# Altium footprint library STSPIN32F0A.PcbLib: 3 footprints
Each footprint in its own frame and in the unit in brackets; x right, y up, seen from the top. Pads: shape width x height; smd on the part's side, far side on the other; paste and mask are expansions set on the pad; w line width, h text height; cw(c..) or ccw(c..) is an arc to the next point about the centre after c.
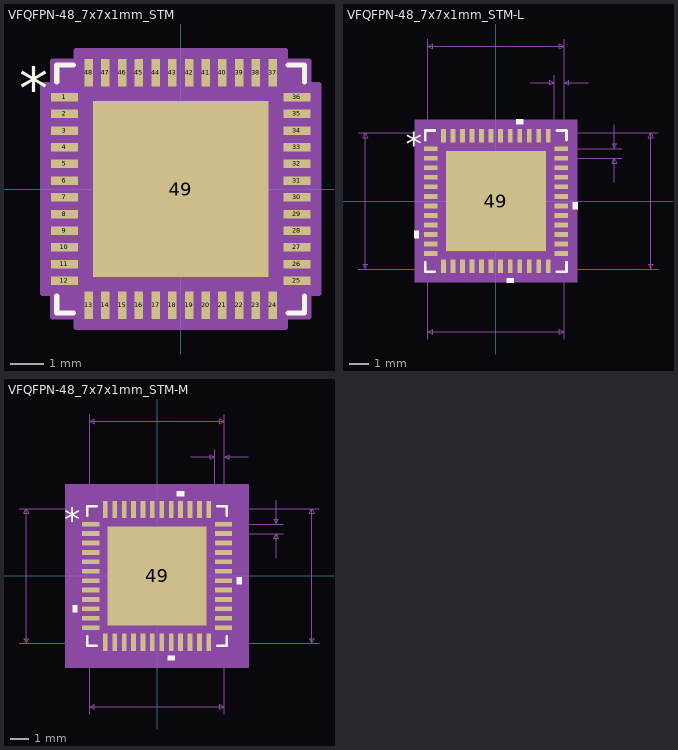
[diagram p0: the footprints below, top view; thin cyan lines are the x and y axes]

## VFQFPN-48_7x7x1mm_STM [mil]
pads (49):
  rect 32x10 smd paste+0 mask+0: 1(-137,108.27) 2(-137,88.58) 3(-137,68.9) 4(-137,49.21) 5(-137,29.53) 6(-137,9.84) 7(-137,-9.84) 8(-137,-29.53) 9(-137,-49.21) 10(-137,-68.9) 11(-137,-88.58) 12(-137,-108.27) 25(137,-108.27) 26(137,-88.58) 27(137,-68.9) 28(137,-49.21) 29(137,-29.53) 30(137,-9.84) 31(137,9.84) 32(137,29.53) 33(137,49.21) 34(137,68.9) 35(137,88.58) 36(137,108.27)
  rect 10x32 smd paste+0 mask+0: 13(-108.27,-137) 14(-88.58,-137) 15(-68.9,-137) 16(-49.21,-137) 17(-29.53,-137) 18(-9.84,-137) 19(9.84,-137) 20(29.53,-137) 21(49.21,-137) 22(68.9,-137) 23(88.58,-137) 24(108.27,-137) 37(108.27,137) 38(88.58,137) 39(68.9,137) 40(49.21,137) 41(29.53,137) 42(9.84,137) 43(-9.84,137) 44(-29.53,137) 45(-49.21,137) 46(-68.9,137) 47(-88.58,137) 48(-108.27,137)
  rect 207x207 smd paste-103 mask+0: 49(0,0)
Top Overlay:
  lines w6: -146,-126.37 -146,-146 -126.37,-146 ; -146,126.37 -146,146 -126.37,146 ; 126.37,-146 146,-146 146,-126.37 ; 126.37,146 146,146 146,126.37
  text "*" at -190.5,93.11 h50
Top Paste:
  region: -55.69,99.56 -99.56,99.56 -99.56,55.69 -55.69,55.69
  region: -55.69,47.81 -99.56,47.81 -99.56,3.94 -55.69,3.94
  region: -55.69,-3.94 -99.56,-3.94 -99.56,-47.81 -55.69,-47.81
  region: -55.69,-55.69 -99.56,-55.69 -99.56,-99.56 -55.69,-99.56
  region: -3.94,99.56 -47.81,99.56 -47.81,55.69 -3.94,55.69
  region: -3.94,47.81 -47.81,47.81 -47.81,3.94 -3.94,3.94
  region: -3.94,-3.94 -47.81,-3.94 -47.81,-47.81 -3.94,-47.81
  region: -3.94,-55.69 -47.81,-55.69 -47.81,-99.56 -3.94,-99.56
  region: 47.81,99.56 3.94,99.56 3.94,55.69 47.81,55.69
  region: 47.81,47.81 3.94,47.81 3.94,3.94 47.81,3.94
  region: 47.81,-3.94 3.94,-3.94 3.94,-47.81 47.81,-47.81
  region: 47.81,-55.69 3.94,-55.69 3.94,-99.56 47.81,-99.56
  region: 99.56,99.56 55.69,99.56 55.69,55.69 99.56,55.69
  region: 99.56,47.81 55.69,47.81 55.69,3.94 99.56,3.94
  region: 99.56,-3.94 55.69,-3.94 55.69,-47.81 99.56,-47.81
  region: 99.56,-55.69 55.69,-55.69 55.69,-99.56 99.56,-99.56
Mechanical 13:
  lines w1: -141,91 -91,141 ; -141,-141 141,-141 141,141 -141,141 -141,-141 ; -141,-114.27 -141,-102.27 -141,-114.27 ; -141,-94.58 -141,-82.58 -141,-94.58 ; -141,-74.9 -141,-62.9 -141,-74.9 ; -141,-55.21 -141,-43.21 -141,-55.21 ; -141,-35.53 -141,-23.53 -141,-35.53 ; -141,-15.84 -141,-3.84 -141,-15.84 ; -141,3.84 -141,15.84 -141,3.84 ; -141,23.53 -141,35.53 -141,23.53 ; -141,43.21 -141,55.21 -141,43.21 ; -141,62.9 -141,74.9 -141,62.9 ; -141,82.58 -141,94.58 -141,82.58 ; -141,102.27 -141,114.27 -141,102.27 ; -114.27,-141 -102.27,-141 -114.27,-141 ; -114.27,141 -102.27,141 -114.27,141 ; -94.58,-141 -82.58,-141 -94.58,-141 ; -94.58,141 -82.58,141 -94.58,141 ; -74.9,-141 -62.9,-141 -74.9,-141 ; -74.9,141 -62.9,141 -74.9,141 ; -55.21,-141 -43.21,-141 -55.21,-141 ; -55.21,141 -43.21,141 -55.21,141 ; -35.53,-141 -23.53,-141 -35.53,-141 ; -35.53,141 -23.53,141 -35.53,141 ; -15.84,-141 -3.84,-141 -15.84,-141 ; -15.84,141 -3.84,141 -15.84,141 ; 3.84,-141 15.84,-141 3.84,-141 ; 3.84,141 15.84,141 3.84,141 ; 23.53,-141 35.53,-141 23.53,-141 ; 23.53,141 35.53,141 23.53,141 ; 43.21,-141 55.21,-141 43.21,-141 ; 43.21,141 55.21,141 43.21,141 ; 62.9,-141 74.9,-141 62.9,-141 ; 62.9,141 74.9,141 62.9,141 ; 82.58,-141 94.58,-141 82.58,-141 ; 82.58,141 94.58,141 82.58,141 ; 102.27,-141 114.27,-141 102.27,-141 ; 102.27,141 114.27,141 102.27,141 ; 141,-114.27 141,-102.27 141,-114.27 ; 141,-94.58 141,-82.58 141,-94.58 ; 141,-74.9 141,-62.9 141,-74.9 ; 141,-55.21 141,-43.21 141,-55.21 ; 141,-35.53 141,-23.53 141,-35.53 ; 141,-15.84 141,-3.84 141,-15.84 ; 141,3.84 141,15.84 141,3.84 ; 141,23.53 141,35.53 141,23.53 ; 141,43.21 141,55.21 141,43.21 ; 141,62.9 141,74.9 141,62.9 ; 141,82.58 141,94.58 141,82.58 ; 141,102.27 141,114.27 141,102.27
  text "*" at -133.5,93.11 h50
Mechanical 15:
  region: -123.27,-151 -151,-151 -151,-123.27 -163,-123.27 -163,123.27 -151,123.27 -151,151 -123.27,151 -123.27,163 123.27,163 123.27,151 151,151 151,123.27 163,123.27 163,-123.27 151,-123.27 151,-151 123.27,-151 123.27,-163 -123.27,-163
  lines w6: -163,-123.27 -151,-123.27 -151,-151 -123.27,-151 -123.27,-163 123.27,-163 123.27,-151 151,-151 151,-123.27 163,-123.27 163,123.27 151,123.27 151,151 123.27,151 123.27,163 -123.27,163 -123.27,151 -151,151 -151,123.27 -163,123.27 -163,-123.27
3D body: height 10, standoff 0, extent 0,0 10,10

## VFQFPN-48_7x7x1mm_STM-L [mil]
pads (49):
  rect 28x10 smd paste+0 mask+0: 1(-135,108.27) 2(-135,88.58) 3(-135,68.9) 4(-135,49.21) 5(-135,29.53) 6(-135,9.84) 7(-135,-9.84) 8(-135,-29.53) 9(-135,-49.21) 10(-135,-68.9) 11(-135,-88.58) 12(-135,-108.27) 25(135,-108.27) 26(135,-88.58) 27(135,-68.9) 28(135,-49.21) 29(135,-29.53) 30(135,-9.84) 31(135,9.84) 32(135,29.53) 33(135,49.21) 34(135,68.9) 35(135,88.58) 36(135,108.27)
  rect 10x28 smd paste+0 mask+0: 13(-108.27,-135) 14(-88.58,-135) 15(-68.9,-135) 16(-49.21,-135) 17(-29.53,-135) 18(-9.84,-135) 19(9.84,-135) 20(29.53,-135) 21(49.21,-135) 22(68.9,-135) 23(88.58,-135) 24(108.27,-135) 37(108.27,135) 38(88.58,135) 39(68.9,135) 40(49.21,135) 41(29.53,135) 42(9.84,135) 43(-9.84,135) 44(-29.53,135) 45(-49.21,135) 46(-68.9,135) 47(-88.58,135) 48(-108.27,135)
  rect 207x207 smd paste-103 mask+0: 49(0,0)
Top Overlay:
  region: 56.71,159 41.71,159 41.71,169 56.71,169
  region: 159,-2.34 169,-2.34 169,-17.34 159,-17.34
  region: 37.03,-159 22.03,-159 22.03,-169 37.03,-169
  region: -159,-61.4 -169,-61.4 -169,-76.4 -159,-76.4
  lines w6: -146,-126.37 -146,-146 -126.37,-146 ; -146,126.37 -146,146 -126.37,146 ; 126.37,-146 146,-146 146,-126.37 ; 126.37,146 146,146 146,126.37
  text "*" at -186.5,93.11 h50
Top Paste:
  region: 99.56,-55.69 55.69,-55.69 55.69,-99.56 99.56,-99.56
  region: 99.56,-3.94 55.69,-3.94 55.69,-47.81 99.56,-47.81
  region: 99.56,47.81 55.69,47.81 55.69,3.94 99.56,3.94
  region: 99.56,99.56 55.69,99.56 55.69,55.69 99.56,55.69
  region: 47.81,-55.69 3.94,-55.69 3.94,-99.56 47.81,-99.56
  region: 47.81,-3.94 3.94,-3.94 3.94,-47.81 47.81,-47.81
  region: 47.81,47.81 3.94,47.81 3.94,3.94 47.81,3.94
  region: 47.81,99.56 3.94,99.56 3.94,55.69 47.81,55.69
  region: -3.94,-55.69 -47.81,-55.69 -47.81,-99.56 -3.94,-99.56
  region: -3.94,-3.94 -47.81,-3.94 -47.81,-47.81 -3.94,-47.81
  region: -3.94,47.81 -47.81,47.81 -47.81,3.94 -3.94,3.94
  region: -3.94,99.56 -47.81,99.56 -47.81,55.69 -3.94,55.69
  region: -55.69,-55.69 -99.56,-55.69 -99.56,-99.56 -55.69,-99.56
  region: -55.69,-3.94 -99.56,-3.94 -99.56,-47.81 -55.69,-47.81
  region: -55.69,47.81 -99.56,47.81 -99.56,3.94 -55.69,3.94
  region: -55.69,99.56 -99.56,99.56 -99.56,55.69 -55.69,55.69
Mechanical 5:
  region: 168,-168 -168,-168 -168,168 168,168
Mechanical 7:
  lines w1: -285,-141 141,-141 ; -285,141 141,141 141,-285 ; -141,-285 -141,141 ; -141,108.27 -141,335 ; 71,245 121,245 ; 108.27,-141 335,-141 ; 108.27,141 335,141 ; 121,108.27 121,260 ; 135,88.58 260,88.58 ; 135,108.27 260,108.27 ; 141,260 141,108.27 141,335 ; 191,245 141,245 ; 245,38.58 245,88.58 ; 245,158.27 245,108.27 ; -270,-141 -265,-131 -275,-131 -270,-141 ; -270,-141 -270,141 ; -270,141 -265,131 -275,131 -270,141 ; -141,-270 -131,-275 -131,-265 -141,-270 ; -141,-270 141,-270 ; -141,320 -131,315 -131,325 -141,320 ; -141,320 141,320 ; 121,245 111,240 111,250 121,245 ; 141,-270 131,-275 131,-265 141,-270 ; 141,245 151,240 151,250 141,245 ; 141,320 131,315 131,325 141,320 ; 245,88.58 250,78.58 240,78.58 245,88.58 ; 245,108.27 250,118.27 240,118.27 245,108.27 ; 320,-141 325,-131 315,-131 320,-141 ; 320,-141 320,141 ; 320,141 325,131 315,131 320,141
  text "0.282in/7.163mm" at -93.75,-315 h25
  text "0.282in/7.163mm" at -477.5,-12.5 h25
  text "0.282in/7.163mm" at 340,-12.5 h25
  text "0.282in/7.163mm" at -93.75,340 h25
  text "0.02in/0.508mm" at 43.5,265 h25
  text "0.02in/0.5mm" at 265,85.93 h25
  text "Alt 2 Padstyle: OX90Y60D30P" at -337.5,-699 h50
  text "Alt 1 Padstyle: OX60Y90D30P" at -337.5,-639 h50
  text "Heat Tab Padstyle: RX207Y207D0T" at -387.5,-519 h50
  text "Default Padstyle: RX10Y28D0T" at -350,-459 h50
Mechanical 13:
  lines w1: -141,91 -91,141 ; -141,-141 -141,141 141,141 141,-141 -141,-141 ; -141,-114.27 -141,-102.27 -141,-114.27 ; -141,-94.58 -141,-82.58 -141,-94.58 ; -141,-74.9 -141,-62.9 -141,-74.9 ; -141,-55.21 -141,-43.21 -141,-55.21 ; -141,-35.53 -141,-23.53 -141,-35.53 ; -141,-15.84 -141,-3.84 -141,-15.84 ; -141,3.84 -141,15.84 -141,3.84 ; -141,23.53 -141,35.53 -141,23.53 ; -141,43.21 -141,55.21 -141,43.21 ; -141,62.9 -141,74.9 -141,62.9 ; -141,82.58 -141,94.58 -141,82.58 ; -141,102.27 -141,114.27 -141,102.27 ; -114.27,-141 -102.27,-141 -114.27,-141 ; -114.27,141 -102.27,141 -114.27,141 ; -94.58,-141 -82.58,-141 -94.58,-141 ; -94.58,141 -82.58,141 -94.58,141 ; -74.9,-141 -62.9,-141 -74.9,-141 ; -74.9,141 -62.9,141 -74.9,141 ; -55.21,-141 -43.21,-141 -55.21,-141 ; -55.21,141 -43.21,141 -55.21,141 ; -35.53,-141 -23.53,-141 -35.53,-141 ; -35.53,141 -23.53,141 -35.53,141 ; -15.84,-141 -3.84,-141 -15.84,-141 ; -15.84,141 -3.84,141 -15.84,141 ; 3.84,-141 15.84,-141 3.84,-141 ; 3.84,141 15.84,141 3.84,141 ; 23.53,-141 35.53,-141 23.53,-141 ; 23.53,141 35.53,141 23.53,141 ; 43.21,-141 55.21,-141 43.21,-141 ; 43.21,141 55.21,141 43.21,141 ; 62.9,-141 74.9,-141 62.9,-141 ; 62.9,141 74.9,141 62.9,141 ; 82.58,-141 94.58,-141 82.58,-141 ; 82.58,141 94.58,141 82.58,141 ; 102.27,-141 114.27,-141 102.27,-141 ; 102.27,141 114.27,141 102.27,141 ; 141,-114.27 141,-102.27 141,-114.27 ; 141,-94.58 141,-82.58 141,-94.58 ; 141,-74.9 141,-62.9 141,-74.9 ; 141,-55.21 141,-43.21 141,-55.21 ; 141,-35.53 141,-23.53 141,-35.53 ; 141,-15.84 141,-3.84 141,-15.84 ; 141,3.84 141,15.84 141,3.84 ; 141,23.53 141,35.53 141,23.53 ; 141,43.21 141,55.21 141,43.21 ; 141,62.9 141,74.9 141,62.9 ; 141,82.58 141,94.58 141,82.58 ; 141,102.27 141,114.27 141,102.27
  text "*" at -133.5,93.11 h50
Mechanical 15:
  region: -117.27,-145 -145,-145 -145,-117.27 -153,-117.27 -153,117.27 -145,117.27 -145,145 -117.27,145 -117.27,153 117.27,153 117.27,145 145,145 145,117.27 153,117.27 153,-117.27 145,-117.27 145,-145 117.27,-145 117.27,-153 -117.27,-153
  lines w6: -153,-117.27 -153,117.27 -145,117.27 -145,145 -117.27,145 -117.27,153 117.27,153 117.27,145 145,145 145,117.27 153,117.27 153,-117.27 145,-117.27 145,-145 117.27,-145 117.27,-153 -117.27,-153 -117.27,-145 -145,-145 -145,-117.27 -153,-117.27
3D body: height 10, standoff 0, extent 0,0 10,10

## VFQFPN-48_7x7x1mm_STM-M [mil]
pads (49):
  rect 36x10 smd paste+0 mask+0: 1(-139,108.27) 2(-139,88.58) 3(-139,68.9) 4(-139,49.21) 5(-139,29.53) 6(-139,9.84) 7(-139,-9.84) 8(-139,-29.53) 9(-139,-49.21) 10(-139,-68.9) 11(-139,-88.58) 12(-139,-108.27) 25(139,-108.27) 26(139,-88.58) 27(139,-68.9) 28(139,-49.21) 29(139,-29.53) 30(139,-9.84) 31(139,9.84) 32(139,29.53) 33(139,49.21) 34(139,68.9) 35(139,88.58) 36(139,108.27)
  rect 10x36 smd paste+0 mask+0: 13(-108.27,-139) 14(-88.58,-139) 15(-68.9,-139) 16(-49.21,-139) 17(-29.53,-139) 18(-9.84,-139) 19(9.84,-139) 20(29.53,-139) 21(49.21,-139) 22(68.9,-139) 23(88.58,-139) 24(108.27,-139) 37(108.27,139) 38(88.58,139) 39(68.9,139) 40(49.21,139) 41(29.53,139) 42(9.84,139) 43(-9.84,139) 44(-29.53,139) 45(-49.21,139) 46(-68.9,139) 47(-88.58,139) 48(-108.27,139)
  rect 207x207 smd paste-103 mask+0: 49(0,0)
Top Overlay:
  region: -167,-61.4 -177,-61.4 -177,-76.4 -167,-76.4
  region: 37.03,-167 22.03,-167 22.03,-177 37.03,-177
  region: 167,-2.34 177,-2.34 177,-17.34 167,-17.34
  region: 56.71,167 41.71,167 41.71,177 56.71,177
  lines w6: -146,-126.37 -146,-146 -126.37,-146 ; -146,126.37 -146,146 -126.37,146 ; 126.37,-146 146,-146 146,-126.37 ; 126.37,146 146,146 146,126.37
  text "*" at -194.5,93.11 h50
Top Paste:
  region: -55.69,99.56 -99.56,99.56 -99.56,55.69 -55.69,55.69
  region: -55.69,47.81 -99.56,47.81 -99.56,3.94 -55.69,3.94
  region: -55.69,-3.94 -99.56,-3.94 -99.56,-47.81 -55.69,-47.81
  region: -55.69,-55.69 -99.56,-55.69 -99.56,-99.56 -55.69,-99.56
  region: -3.94,99.56 -47.81,99.56 -47.81,55.69 -3.94,55.69
  region: -3.94,47.81 -47.81,47.81 -47.81,3.94 -3.94,3.94
  region: -3.94,-3.94 -47.81,-3.94 -47.81,-47.81 -3.94,-47.81
  region: -3.94,-55.69 -47.81,-55.69 -47.81,-99.56 -3.94,-99.56
  region: 47.81,99.56 3.94,99.56 3.94,55.69 47.81,55.69
  region: 47.81,47.81 3.94,47.81 3.94,3.94 47.81,3.94
  region: 47.81,-3.94 3.94,-3.94 3.94,-47.81 47.81,-47.81
  region: 47.81,-55.69 3.94,-55.69 3.94,-99.56 47.81,-99.56
  region: 99.56,99.56 55.69,99.56 55.69,55.69 99.56,55.69
  region: 99.56,47.81 55.69,47.81 55.69,3.94 99.56,3.94
  region: 99.56,-3.94 55.69,-3.94 55.69,-47.81 99.56,-47.81
  region: 99.56,-55.69 55.69,-55.69 55.69,-99.56 99.56,-99.56
Mechanical 5:
  region: 192,-192 -192,-192 -192,192 192,192
Mechanical 7:
  lines w1: -289,-141 141,-141 ; -289,141 141,141 141,-289 ; -141,-289 -141,141 ; -141,108.27 -141,339 ; 71,249 121,249 ; 108.27,-141 339,-141 ; 108.27,141 339,141 ; 121,108.27 121,264 ; 139,88.58 264,88.58 ; 139,108.27 264,108.27 ; 141,264 141,108.27 141,339 ; 191,249 141,249 ; 249,38.58 249,88.58 ; 249,158.27 249,108.27 ; -274,-141 -274,141 ; -274,-141 -279,-131 -269,-131 -274,-141 ; -274,141 -279,131 -269,131 -274,141 ; -141,-274 141,-274 ; -141,-274 -131,-269 -131,-279 -141,-274 ; -141,324 141,324 ; -141,324 -131,329 -131,319 -141,324 ; 121,249 111,254 111,244 121,249 ; 141,-274 131,-269 131,-279 141,-274 ; 141,249 151,254 151,244 141,249 ; 141,324 131,329 131,319 141,324 ; 249,88.58 244,78.58 254,78.58 249,88.58 ; 249,108.27 244,118.27 254,118.27 249,108.27 ; 324,-141 324,141 ; 324,-141 319,-131 329,-131 324,-141 ; 324,141 319,131 329,131 324,141
  text "Default Padstyle: RX10Y36D0T" at -350,-467 h50
  text "Heat Tab Padstyle: RX207Y207D0T" at -387.5,-527 h50
  text "Alt 1 Padstyle: OX60Y90D30P" at -337.5,-647 h50
  text "Alt 2 Padstyle: OX90Y60D30P" at -337.5,-707 h50
  text "0.02in/0.5mm" at 269,85.93 h25
  text "0.02in/0.508mm" at 43.5,269 h25
  text "0.282in/7.163mm" at -93.75,344 h25
  text "0.282in/7.163mm" at 344,-12.5 h25
  text "0.282in/7.163mm" at -481.5,-12.5 h25
  text "0.282in/7.163mm" at -93.75,-319 h25
Mechanical 13:
  lines w1: -141,91 -91,141 ; -141,-141 141,-141 141,141 -141,141 -141,-141 ; -141,-114.27 -141,-102.27 -141,-114.27 ; -141,-94.58 -141,-82.58 -141,-94.58 ; -141,-74.9 -141,-62.9 -141,-74.9 ; -141,-55.21 -141,-43.21 -141,-55.21 ; -141,-35.53 -141,-23.53 -141,-35.53 ; -141,-15.84 -141,-3.84 -141,-15.84 ; -141,3.84 -141,15.84 -141,3.84 ; -141,23.53 -141,35.53 -141,23.53 ; -141,43.21 -141,55.21 -141,43.21 ; -141,62.9 -141,74.9 -141,62.9 ; -141,82.58 -141,94.58 -141,82.58 ; -141,102.27 -141,114.27 -141,102.27 ; -114.27,-141 -102.27,-141 -114.27,-141 ; -114.27,141 -102.27,141 -114.27,141 ; -94.58,-141 -82.58,-141 -94.58,-141 ; -94.58,141 -82.58,141 -94.58,141 ; -74.9,-141 -62.9,-141 -74.9,-141 ; -74.9,141 -62.9,141 -74.9,141 ; -55.21,-141 -43.21,-141 -55.21,-141 ; -55.21,141 -43.21,141 -55.21,141 ; -35.53,-141 -23.53,-141 -35.53,-141 ; -35.53,141 -23.53,141 -35.53,141 ; -15.84,-141 -3.84,-141 -15.84,-141 ; -15.84,141 -3.84,141 -15.84,141 ; 3.84,-141 15.84,-141 3.84,-141 ; 3.84,141 15.84,141 3.84,141 ; 23.53,-141 35.53,-141 23.53,-141 ; 23.53,141 35.53,141 23.53,141 ; 43.21,-141 55.21,-141 43.21,-141 ; 43.21,141 55.21,141 43.21,141 ; 62.9,-141 74.9,-141 62.9,-141 ; 62.9,141 74.9,141 62.9,141 ; 82.58,-141 94.58,-141 82.58,-141 ; 82.58,141 94.58,141 82.58,141 ; 102.27,-141 114.27,-141 102.27,-141 ; 102.27,141 114.27,141 102.27,141 ; 141,-114.27 141,-102.27 141,-114.27 ; 141,-94.58 141,-82.58 141,-94.58 ; 141,-74.9 141,-62.9 141,-74.9 ; 141,-55.21 141,-43.21 141,-55.21 ; 141,-35.53 141,-23.53 141,-35.53 ; 141,-15.84 141,-3.84 141,-15.84 ; 141,3.84 141,15.84 141,3.84 ; 141,23.53 141,35.53 141,23.53 ; 141,43.21 141,55.21 141,43.21 ; 141,62.9 141,74.9 141,62.9 ; 141,82.58 141,94.58 141,82.58 ; 141,102.27 141,114.27 141,102.27
  text "*" at -133.5,93.11 h50
Mechanical 15:
  region: -133.27,-161 -161,-161 -161,-133.27 -177,-133.27 -177,133.27 -161,133.27 -161,161 -133.27,161 -133.27,177 133.27,177 133.27,161 161,161 161,133.27 177,133.27 177,-133.27 161,-133.27 161,-161 133.27,-161 133.27,-177 -133.27,-177
  lines w6: -177,-133.27 -161,-133.27 -161,-161 -133.27,-161 -133.27,-177 133.27,-177 133.27,-161 161,-161 161,-133.27 177,-133.27 177,133.27 161,133.27 161,161 133.27,161 133.27,177 -133.27,177 -133.27,161 -161,161 -161,133.27 -177,133.27 -177,-133.27
3D body: height 10, standoff 0, extent 0,0 10,10